# Altium schematic symbol library chenjd.SCHLIB: 64 symbols
Pins are listed as number, name and electrical type; pins without a type are passive.

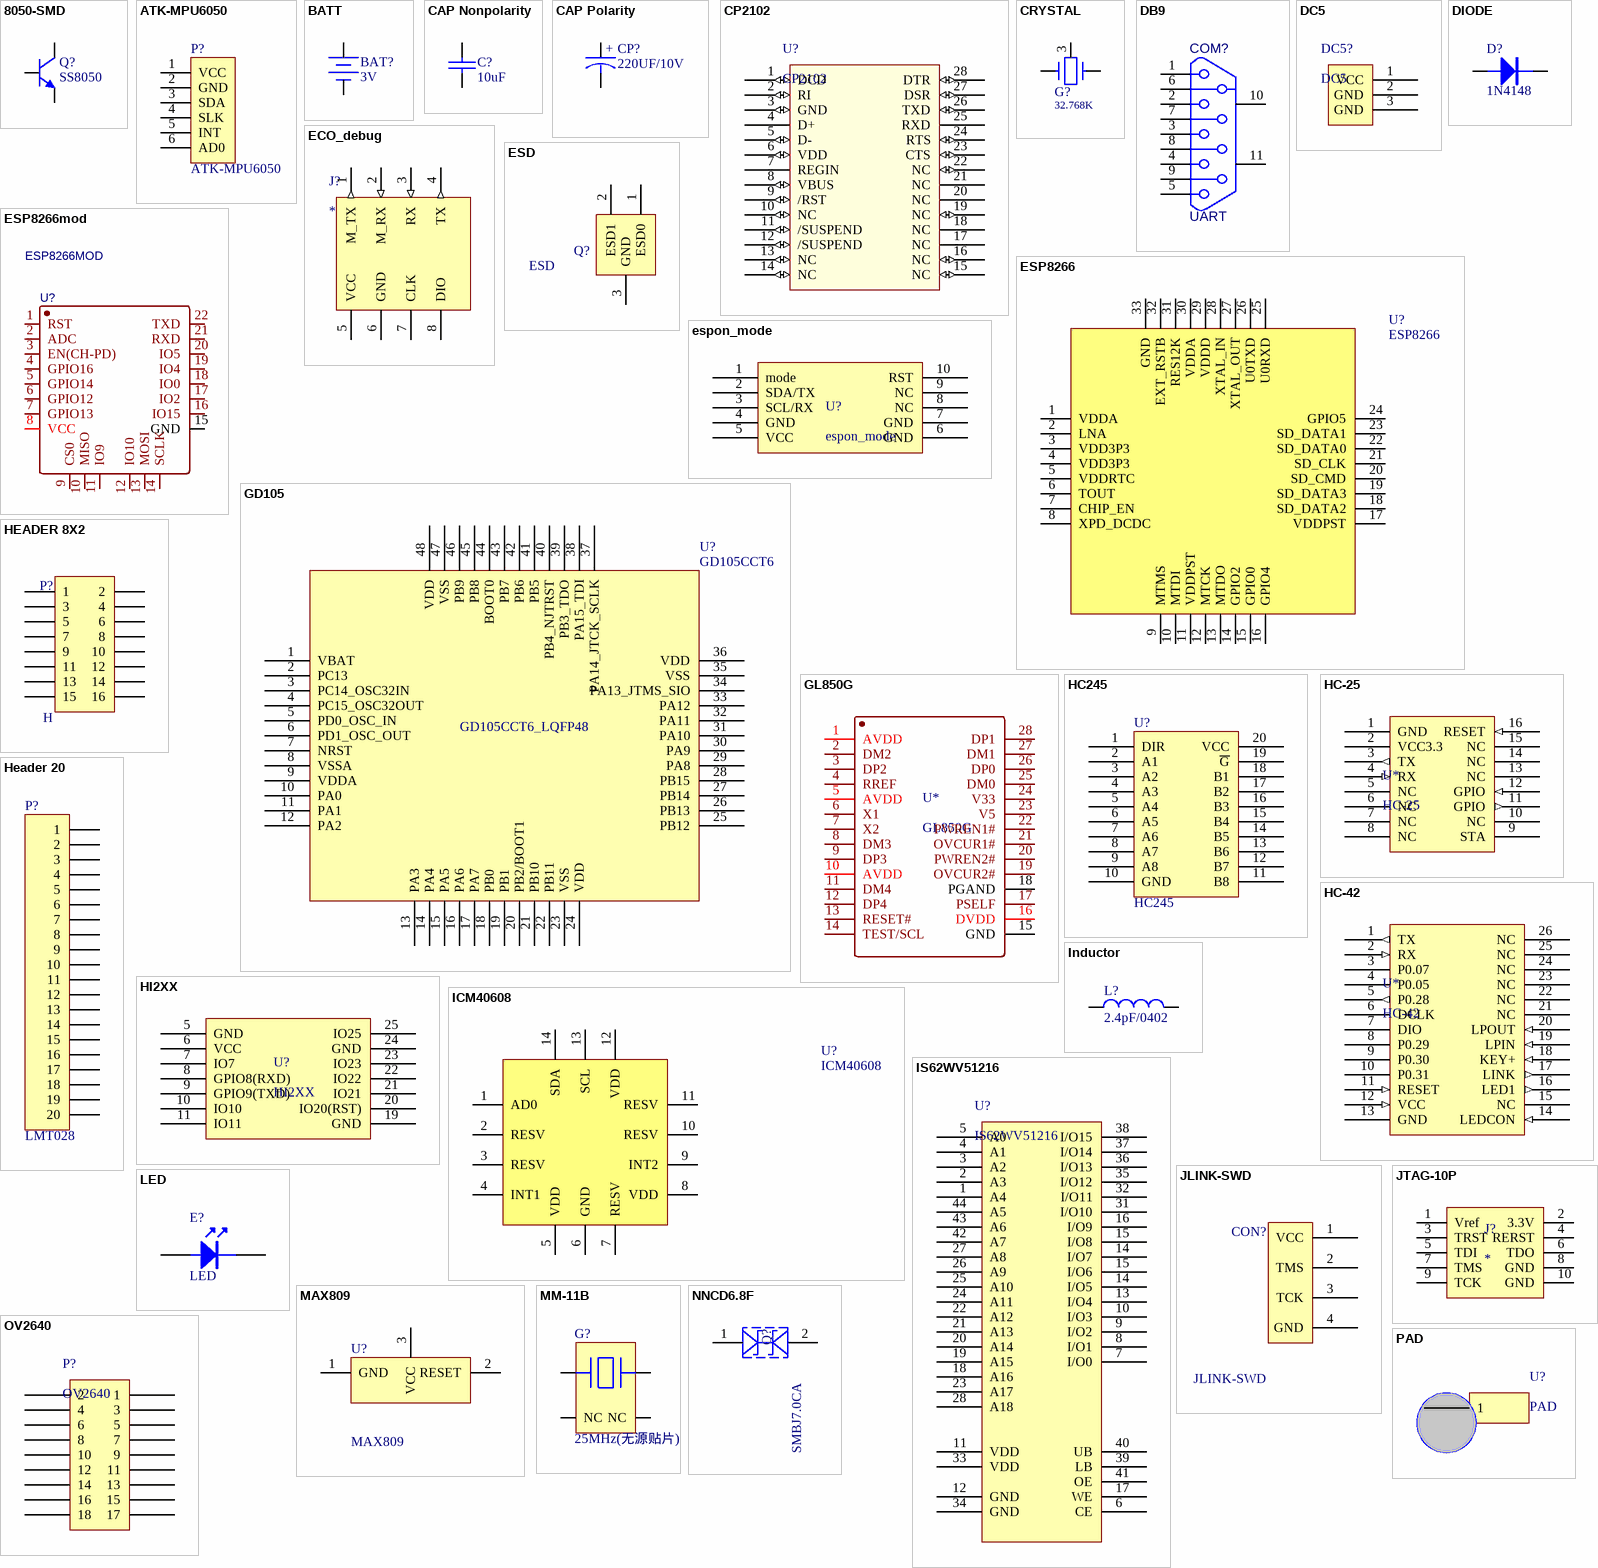
[diagram p0: symbols 8050-SMD to PAD]

## 8050-SMD
designator Q?, comment SS8050
高频放大-NPN型; 版权归属: 源创客; 属性: 40V 1.5A 1W 100MHZ; BOM名称: 高频放大-NPN型; 学习资源: www.ooocke.com
footprint SOT23-3N (3x1.3x1mm(长宽高))
footprint SOT23-3L (3x1.3x1mm(长宽高))
footprint SOT23-3M (3x1.3x1mm(长宽高))
pins: 1 B, 2 E, 3 C

## ATK-MPU6050
designator P?
LatestRevisionDate: 17-Jul-2002; LatestRevisionNote: Re-released for DXP Platform.; Publisher: Altium Limited
footprint ATK-MPU6080
pins: 1 VCC, 2 GND, 3 SDA, 4 SLK, 5 INT, 6 AD0

## BATT
designator BAT?, comment 3V
纽扣电池
footprint BAT (RTC电源)
pins: 1 VDD, 2 GND
2 alternate drawings of the same symbol

## CAP Nonpolarity
designator C?, comment 10uF
无极电容
footprint 0603C (0603电容)
pins: 1, 2
2 alternate drawings of the same symbol

## CAP Polarity
designator CP?, comment 220UF/10V
有极电容
footprint CAP
pins: 1, 2
2 alternate drawings of the same symbol
text: +

## CP2102
designator U?
usb转usart
footprint QFN28
pins: 1 DCD (io), 2 RI (io), 3 GND (io), 4 D+ (power), 5 D- (io), 6 VDD (io), 7 REGIN (power), 8 VBUS (io), 9 /RST (io), 10 NC (io), 11 /SUSPEND (io), 12 /SUSPEND (io), 13 NC (io), 14 NC (io), 15 NC (io), 16 NC (io), 17 NC (power), 18 NC (power), 19 NC (io), 20 NC (power), 21 NC (power), 22 NC (io), 23 CTS (io), 24 RTS (io), 25 RXD (power), 26 TXD (io), 27 DSR (io), 28 DTR (io)

## CRYSTAL
designator G?, comment 32.768K
RTC晶振
footprint XTAL3X8 (RTC晶振)
pins: 1, 2, 3

## DB9
designator COM?, comment UART
串口接口
footprint DB9-Female (DB9-母头接口)
footprint DB9-Male (DB9公头接口)
pins: 1, 2, 3, 4, 5, 6, 7, 8, 9, 10, 11

## DC5
designator DC5?
footprint DC5 (DC5电源插座)
pins: 1 VCC, 2 GND, 3 GND

## DIODE
designator D?, comment 1N4148
二极管
footprint DIODE0.4
footprint 1N4148
pins: 1, 2
2 alternate drawings of the same symbol

## ECO_debug
designator J?
eco调试接口
footprint ECO_debug (eco调试接口)
pins: 1 M_TX (out), 2 M_RX (in), 3 RX (in), 4 TX (out), 5 VCC (power), 6 GND, 7 CLK, 8 DIO

## ESD
designator Q?
PESD1CAN
footprint SOT32-809 (ESD)
pins: 1 ESD0, 2 ESD1, 3 GND
2 alternate drawings of the same symbol

## ESP8266
designator U?
footprint QFN32 (QFN, 32-Leads, ESP8266)
pins: 1 VDDA, 2 LNA, 3 VDD3P3, 4 VDD3P3, 5 VDDRTC, 6 TOUT, 7 CHIP_EN, 8 XPD_DCDC, 9 MTMS, 10 MTDI, 11 VDDPST, 12 MTCK, 13 MTDO, 14 GPIO2, 15 GPIO0, 16 GPIO4, 17 VDDPST, 18 SD_DATA2, 19 SD_DATA3, 20 SD_CMD, 21 SD_CLK, 22 SD_DATA0, 23 SD_DATA1, 24 GPIO5, 25 U0RXD, 26 U0TXD, 27 XTAL_OUT, 28 XTAL_IN, 29 VDDD, 30 VDDA, 31 RES12K, 32 EXT_RSTB, 33 GND

## ESP8266mod
designator U?, comment ESP8266MOD
BOM_Manufacturer: Ai-Thinker; BOM_Manufacturer Part: ESP-12F(ESP8266MOD); BOM_Supplier: LCSC; BOM_Supplier Part: C82891; spicePre: U
footprint ESP8266MOD
pins: 1 RST, 2 ADC, 3 EN(CH-PD), 4 GPIO16, 5 GPIO14, 6 GPIO12, 7 GPIO13, 8 VCC, 9 CS0, 10 MISO, 11 IO9, 12 IO10, 13 MOSI, 14 SCLK, 15 GND, 16 IO15, 17 IO2, 18 IO0, 19 IO4, 20 IO5, 21 RXD, 22 TXD

## espon_mode
designator U?
footprint espon_mode
pins: 1 mode, 2 SDA/TX, 3 SCL/RX, 4 GND, 5 VCC, 6 GND, 7 GND, 8 NC, 9 NC, 10 RST

## GD105
designator U?, comment GD105CCT6
GD105CCT6_LQFP48
footprint LQFP-48 (GD105)
pins: 1 VBAT, 2 PC13, 3 PC14_OSC32IN, 4 PC15_OSC32OUT, 5 PD0_OSC_IN, 6 PD1_OSC_OUT, 7 NRST, 8 VSSA, 9 VDDA, 10 PA0, 11 PA1, 12 PA2, 13 PA3, 14 PA4, 15 PA5, 16 PA6, 17 PA7, 18 PB0, 19 PB1, 20 PB2/BOOT1, 21 PB10, 22 PB11, 23 VSS, 24 VDD, 25 PB12, 26 PB13, 27 PB14, 28 PB15, 29 PA8, 30 PA9, 31 PA10, 32 PA11, 33 PA12, 34 PA13_JTMS_SIO, 35 VSS, 36 VDD, 37 PA14_JTCK_SCLK, 38 PA15_TDI, 39 PB3_TDO, 40 PB4_NJTRST, 41 PB5, 42 PB6, 43 PB7, 44 BOOT0, 45 PB8, 46 PB9, 47 VSS, 48 VDD

## GL850G
designator U*
USB集线器芯片
footprint GL850G-SSOP-28 (GL850G集线器芯片)
pins: 1 AVDD, 2 DM2, 3 DP2, 4 RREF, 5 AVDD, 6 X1, 7 X2, 8 DM3, 9 DP3, 10 AVDD, 11 DM4, 12 DP4, 13 RESET#, 14 TEST/SCL, 15 GND, 16 DVDD, 17 PSELF, 18 PGAND, 19 OVCUR2#, 20 PWREN2#, 21 OVCUR1#, 22 PWREN1#, 23 V5, 24 V33, 25 DM0, 26 DP0, 27 DM1, 28 DP1

## HC245
designator U?
245驱动
footprint SO20M (245)
pins: 1 DIR, 2 A1, 3 A2, 4 A3, 5 A4, 6 A5, 7 A6, 8 A7, 9 A8, 10 GND, 11 B8, 12 B7, 13 B6, 14 B5, 15 B4, 16 B3, 17 B2, 18 B1, 19 ~{G}, 20 VCC
2 alternate drawings of the same symbol

## HC-25
designator U*
HC-25wifi模块
footprint HC-25 (HC-25wifi模块)
pins: 1 GND, 2 VCC3.3, 3 TX (out), 4 RX (in), 5 NC, 6 NC, 7 NC, 8 NC, 9 STA, 10 NC, 11 GPIO (out), 12 GPIO (in), 13 NC, 14 NC, 15 NC, 16 RESET (in)

## HC-42
designator U*
HC-25蓝牙模块
footprint HC-42 (HC-42wifi模块)
pins: 1 TX (out), 2 RX (in), 3 P0.07, 4 P0.05, 5 P0.28 (out), 6 DCLK, 7 DIO, 8 P0.29, 9 P0.30, 10 P0.31, 11 RESET (in), 12 VCC (in), 13 GND, 14 LEDCON (in), 15 NC, 16 LED1 (out), 17 LINK (out), 18 KEY+ (in), 19 LPIN (in), 20 LPOUT (in), 21 NC, 22 NC, 23 NC, 24 NC, 25 NC, 26 NC

## HEADER 8X2
designator P?, comment H
8*2插针
footprint header8*2 (8*2插针)
pins: 1, 2, 3, 4, 5, 6, 7, 8, 9, 10, 11, 12, 13, 14, 15, 16

## Header 20
designator P?, comment LMT028
8位LCD; LatestRevisionDate: 17-Jul-2002; LatestRevisionNote: Re-released for DXP Platform.; Publisher: Altium Limited
footprint FPC-SMD20P-1.0MM
pins: 1, 2, 3, 4, 5, 6, 7, 8, 9, 10, 11, 12, 13, 14, 15, 16, 17, 18, 19, 20

## HI2XX
designator U?
HI226
footprint HI2XX_PLCC28 (Footprint not found)
pins: 5 GND, 6 VCC, 7 IO7, 8 GPIO8(RXD), 9 GPIO9(TXD), 10 IO10, 11 IO11, 19 GND, 20 IO20(RST), 21 IO21, 22 IO22, 23 IO23, 24 GND, 25 IO25

## ICM40608
designator U?
footprint ICM40608-LGA-14
pins: 1 AD0, 2 RESV, 3 RESV, 4 INT1, 5 VDD, 6 GND, 7 RESV, 8 VDD, 9 INT2, 10 RESV, 11 RESV, 12 VDD, 13 SCL, 14 SDA

## Inductor
designator L?, comment 2.4pF/0402
电感; Code_IEC: 1005; Value: 10mH; Published: 8-Jun-2000; LatestRevisionDate: 29-May-2009; LatestRevisionNote: IPC-7351 Footprint Added.; PackageReference: 0402-A; Publisher: Altium Limited; PackageDescription: Chip Inductor; Code_JEITA: 0402
footprint 0402R
pins: 1, 2

## IS62WV51216
designator U?
footprint LC-TSOP(II)-44 (SRAM:IS62WV51216)
pins: 1 A4, 2 A3, 3 A2, 4 A1, 5 A0, 6 CE, 7 I/O0, 8 I/O1, 9 I/O2, 10 I/O3, 11 VDD, 12 GND, 13 I/O4, 14 I/O5, 14 I/O7, 15 I/O6, 15 I/O8, 16 I/O9, 17 WE, 18 A16, 19 A15, 20 A14, 21 A13, 22 A12, 23 A17, 24 A11, 25 A10, 26 A9, 27 A8, 28 A18, 31 I/O10, 32 I/O11, 33 VDD, 34 GND, 35 I/O12, 36 I/O13, 37 I/O14, 38 I/O15, 39 LB, 40 UB, 41 OE, 42 A7, 43 A6, 44 A5

## JLINK-SWD
designator CON?
SWD下载接口
footprint Jlink-SWD (Jlink下载接口)
pins: 1 VCC, 2 TMS, 3 TCK, 4 GND

## JTAG-10P
designator J?
10pin JTAG
footprint JTAG-10pin (10pin JTAG)
pins: 1 Vref, 2 3.3V, 3 TRST, 4 RERST, 5 TDI, 6 TDO, 7 TMS, 8 GND, 9 TCK, 10 GND

## LED
designator E?
LED灯
footprint 0805
footprint LED_0603L (LED)
pins: 1, 2
2 alternate drawings of the same symbol

## MAX809
designator U?
复位IC
footprint SOT32-809 (ESD)
pins: 1 GND, 2 RESET, 3 VCC

## MM-11B
designator G?, comment 25MHz(无源贴片)
无源晶振MCU使用
footprint CLOCK6.9*1.4
footprint XTAL3X8
footprint G3225 (3225贴片晶振)
pins: 1, 2 NC, 3, 4 NC

## NNCD6.8F
designator Q?, comment SMBJ7.0CA
TVS二极管
footprint Q (485)
pins: 1, 2
2 alternate drawings of the same symbol

## OV2640
designator P?
CAMERA接口
footprint OV2640 (CAMERA接口)
pins: 1, 2, 3, 4, 5, 6, 7, 8, 9, 10, 11, 12, 13, 14, 15, 16, 17, 18

## PAD
designator U?
触摸
pins: 1

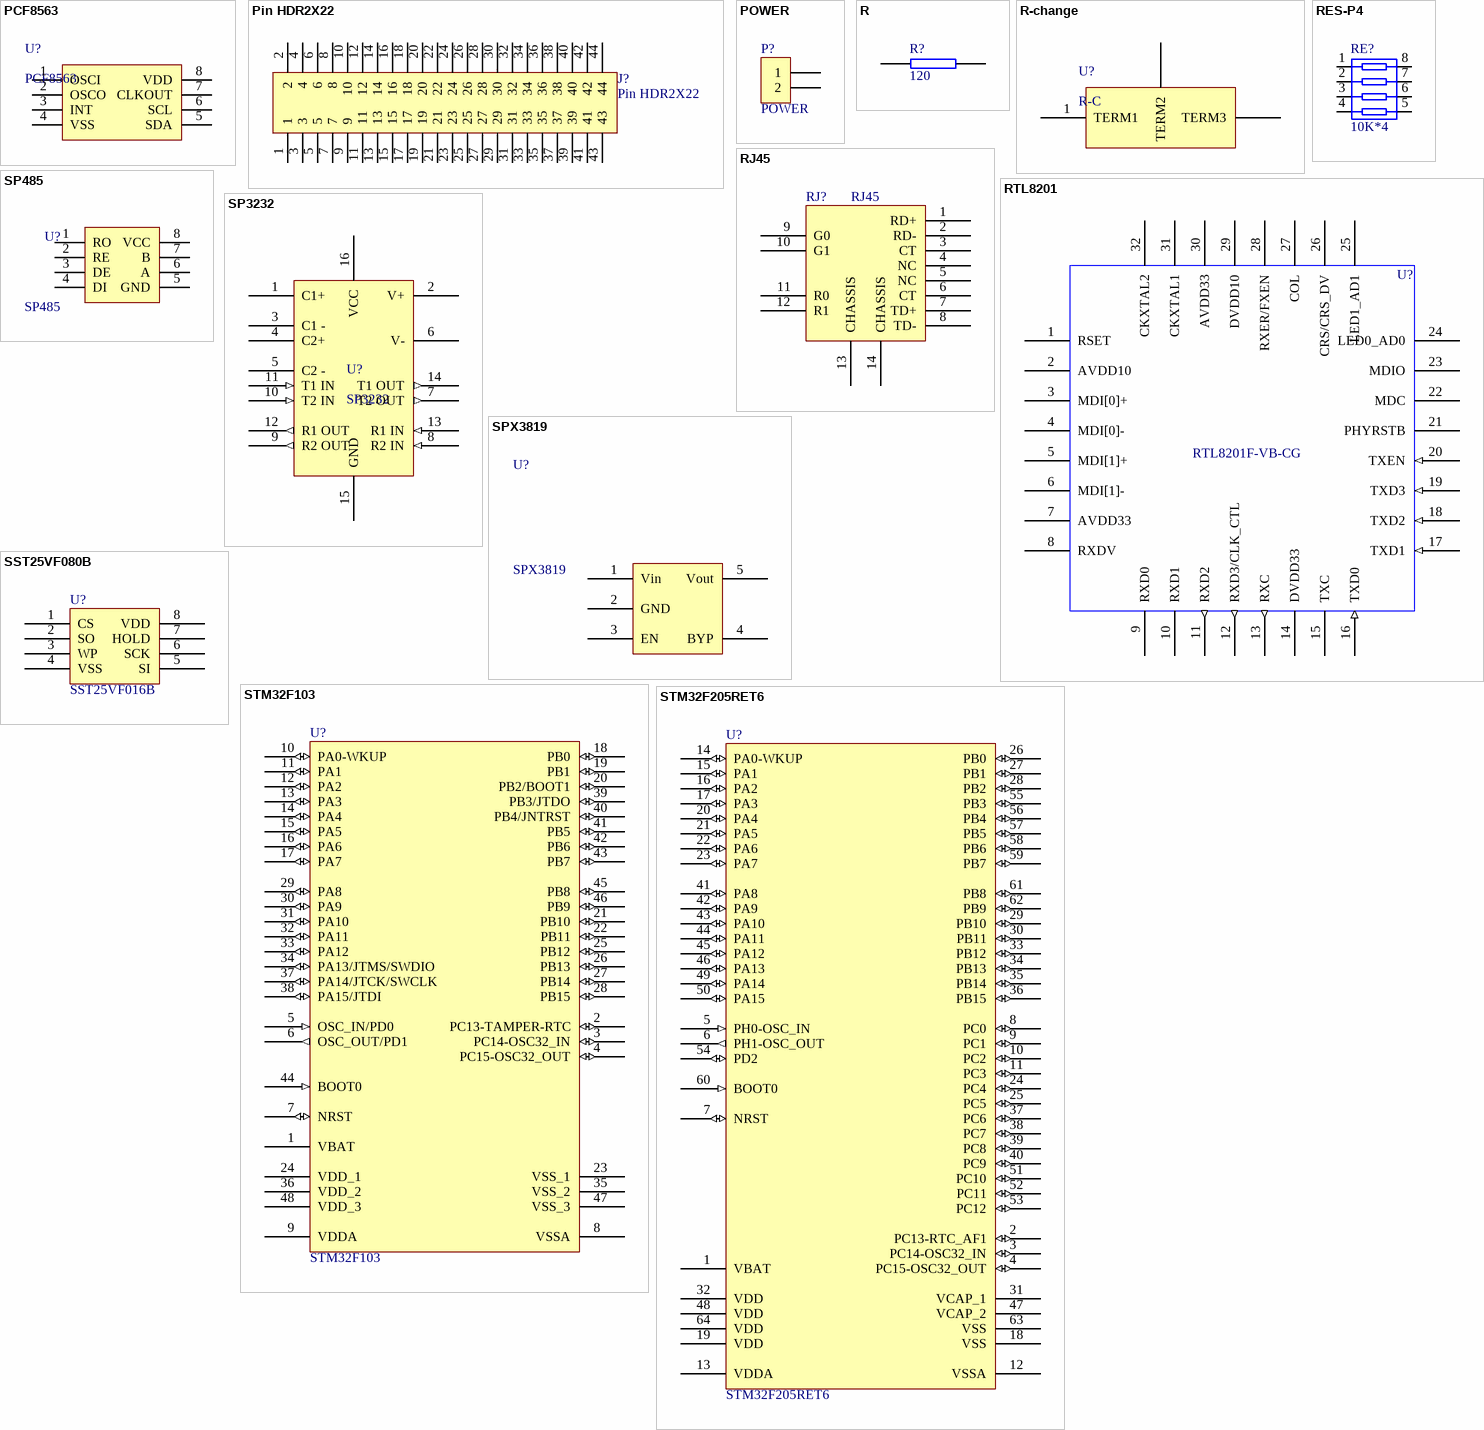
[diagram p1: symbols PCF8563 to STM32F205RET6]

## PCF8563
designator U?
RTC芯片
footprint SO8 (485和RTC)
pins: 1 OSCI, 2 OSCO, 3 INT, 4 VSS, 5 SDA, 6 SCL, 7 CLKOUT, 8 VDD

## Pin HDR2X22
designator J?
22pin双排2.54接口
footprint Pin HDR2X22/2.54mm-W (Connector; Header; 22x2 Position; Right Angle)
footprint PIN HDR2X22/2.54SMD (22pin双排2.54贴片)
pins: 1, 2, 3, 4, 5, 6, 7, 8, 9, 10, 11, 12, 13, 14, 15, 16, 17, 18, 19, 20, 21, 22, 23, 24, 25, 26, 27, 28, 29, 30, 31, 32, 33, 34, 35, 36, 37, 38, 39, 40, 41, 42, 43, 44

## POWER
designator P?
电源接口
footprint POWERCOM (power接口)
pins: 1, 2
2 alternate drawings of the same symbol

## R
designator R?, comment 120
电阻
footprint 0603R (0603电阻封装)
pins: 1, 2
2 alternate drawings of the same symbol

## R-change
designator U?, comment R-C
滑动变阻器
footprint R-Change (滑动变阻器)
pins: 1 TERM1, 2 TERM2, 3 TERM3

## RES-P4
designator RE?, comment 10K*4
4 排阻
footprint PZ-4-0.8B
footprint SRS9 (排阻)
pins: 1, 2, 3, 4, 5, 6, 7, 8
2 alternate drawings of the same symbol

## RJ45
designator RJ?
footprint RJ45
pins: 1 RD+, 2 RD-, 3 CT, 4 NC, 5 NC, 6 CT, 7 TD+, 8 TD-, 9 G0, 10 G1, 11 R0, 12 R1, 13 CHASSIS, 14 CHASSIS
2 alternate drawings of the same symbol

## RTL8201
designator U?, comment RTL8201F-VB-CG
RTL8201; Text Field1: 230; Text Field2: 230
footprint QFN32 (QFN32脚)
pins: 1 RSET (power), 2 AVDD10 (power), 3 MDI[0]+, 4 MDI[0]-, 5 MDI[1]+ (power), 6 MDI[1]-, 7 AVDD33, 8 RXDV, 9 RXD0, 10 RXD1, 11 RXD2 (out), 12 RXD3/CLK_CTL (out), 13 RXC (out), 14 DVDD33 (power), 15 TXC, 16 TXD0 (in), 17 TXD1 (in), 18 TXD2 (in), 19 TXD3 (in), 20 TXEN (in), 21 PHYRSTB, 22 MDC, 23 MDIO, 24 LED0_AD0, 25 LED1_AD1 (power), 26 CRS/CRS_DV, 27 COL, 28 RXER/FXEN, 29 DVDD10 (power), 30 AVDD33, 31 CKXTAL1 (power), 32 CKXTAL2 (power)
text: RTL8201F

## SP485
designator U?
485芯片
footprint SO8 (485和RTC)
pins: 1 RO, 2 RE, 3 DE, 4 DI, 5 GND, 6 A, 7 B, 8 VCC
2 alternate drawings of the same symbol

## SP3232
designator U?
232IC
footprint SO16 (232)
pins: 1 C1+, 2 V+, 3 C1 -, 4 C2+, 5 C2 -, 6 V-, 7 T2 OUT (out), 8 R2 IN (in), 9 R2 OUT (out), 10 T2 IN (in), 11 T1 IN (in), 12 R1 OUT (out), 13 R1 IN (in), 14 T1 OUT (out), 15 GND, 16 VCC (power)

## SPX3819
designator U?
稳压器
footprint SOT-23-5 (SPX3819)
pins: 1 Vin, 2 GND, 3 EN, 4 BYP, 5 Vout
2 alternate drawings of the same symbol

## SST25VF080B
designator U?, comment SST25VF016B
串行Flash
footprint SOW8 (flash封装)
pins: 1 CS, 2 SO, 3 WP, 4 VSS, 5 SI, 6 SCK, 7 HOLD, 8 VDD

## STM32F103
designator U?
STM32F103C8T6; Published: 30-May-2008; DatasheetVersion: rev6, Mar-2008; PackageVersion: Mar-2008; PackageReference: LQFP48; Publisher: Altium Limited; PackageDescription: 48-Pin Low-Profile Quad Flat Pack, 7 x 7 mm Body, 0.5 mm Pitch (LQFP48); ComponentLink1Description: Manufacturer Link; ComponentLink1URL: www.st.com/stm32; ComponentLink2Description: Datasheet; ComponentLink2URL: http://www.st.com/stonline/products/literature/ds/13587.pdf
footprint LQFP-48 (GD105)
pins: 1 VBAT (power), 2 PC13-TAMPER-RTC (io), 3 PC14-OSC32_IN (io), 4 PC15-OSC32_OUT (io), 5 OSC_IN/PD0 (in), 6 OSC_OUT/PD1 (out), 7 NRST (io), 8 VSSA (power), 9 VDDA (power), 10 PA0-WKUP (io), 11 PA1 (io), 12 PA2 (io), 13 PA3 (io), 14 PA4 (io), 15 PA5 (io), 16 PA6 (io), 17 PA7 (io), 18 PB0 (io), 19 PB1 (io), 20 PB2/BOOT1 (io), 21 PB10 (io), 22 PB11 (io), 23 VSS_1 (power), 24 VDD_1 (power), 25 PB12 (io), 26 PB13 (io), 27 PB14 (io), 28 PB15 (io), 29 PA8 (io), 30 PA9 (io), 31 PA10 (io), 32 PA11 (io), 33 PA12 (io), 34 PA13/JTMS/SWDIO (io), 35 VSS_2 (power), 36 VDD_2 (power), 37 PA14/JTCK/SWCLK (io), 38 PA15/JTDI (io), 39 PB3/JTDO (io), 40 PB4/JNTRST (io), 41 PB5 (io), 42 PB6 (io), 43 PB7 (io), 44 BOOT0 (in), 45 PB8 (io), 46 PB9 (io), 47 VSS_3 (power), 48 VDD_3 (power)

## STM32F205RET6
designator U?
Microcontroller   ST; Code: 104261; Vision: V5.0; Value: STM32F205RET6; LatestRevisionDate: 25-Mar-2015; PackageReference: SQFP10x10-64; Brand: ST; InitialReleaseDate: 25-Mar-2015
footprint LQFP64 10x10_N (64脚，体宽10x10mm，脚距0.5mm)
pins: 1 VBAT (power), 2 PC13-RTC_AF1 (io), 3 PC14-OSC32_IN (io), 4 PC15-OSC32_OUT (io), 5 PH0-OSC_IN (in), 6 PH1-OSC_OUT (out), 7 NRST (io), 8 PC0 (io), 9 PC1 (io), 10 PC2 (io), 11 PC3 (io), 12 VSSA (power), 13 VDDA (power), 14 PA0-WKUP (io), 15 PA1 (io), 16 PA2 (io), 17 PA3 (io), 18 VSS (power), 19 VDD (power), 20 PA4 (io), 21 PA5 (io), 22 PA6 (io), 23 PA7 (io), 24 PC4 (io), 25 PC5 (io), 26 PB0 (io), 27 PB1 (io), 28 PB2 (io), 29 PB10 (io), 30 PB11 (io), 31 VCAP_1 (power), 32 VDD (power), 33 PB12 (io), 34 PB13 (io), 35 PB14 (io), 36 PB15 (io), 37 PC6 (io), 38 PC7 (io), 39 PC8 (io), 40 PC9 (io), 41 PA8 (io), 42 PA9 (io), 43 PA10 (io), 44 PA11 (io), 45 PA12 (io), 46 PA13 (io), 47 VCAP_2 (power), 48 VDD (power), 49 PA14 (io), 50 PA15 (io), 51 PC10 (io), 52 PC11 (io), 53 PC12 (io), 54 PD2 (io), 55 PB3 (io), 56 PB4 (io), 57 PB5 (io), 58 PB6 (io), 59 PB7 (io), 60 BOOT0 (in), 61 PB8 (io), 62 PB9 (io), 63 VSS (power), 64 VDD (power)

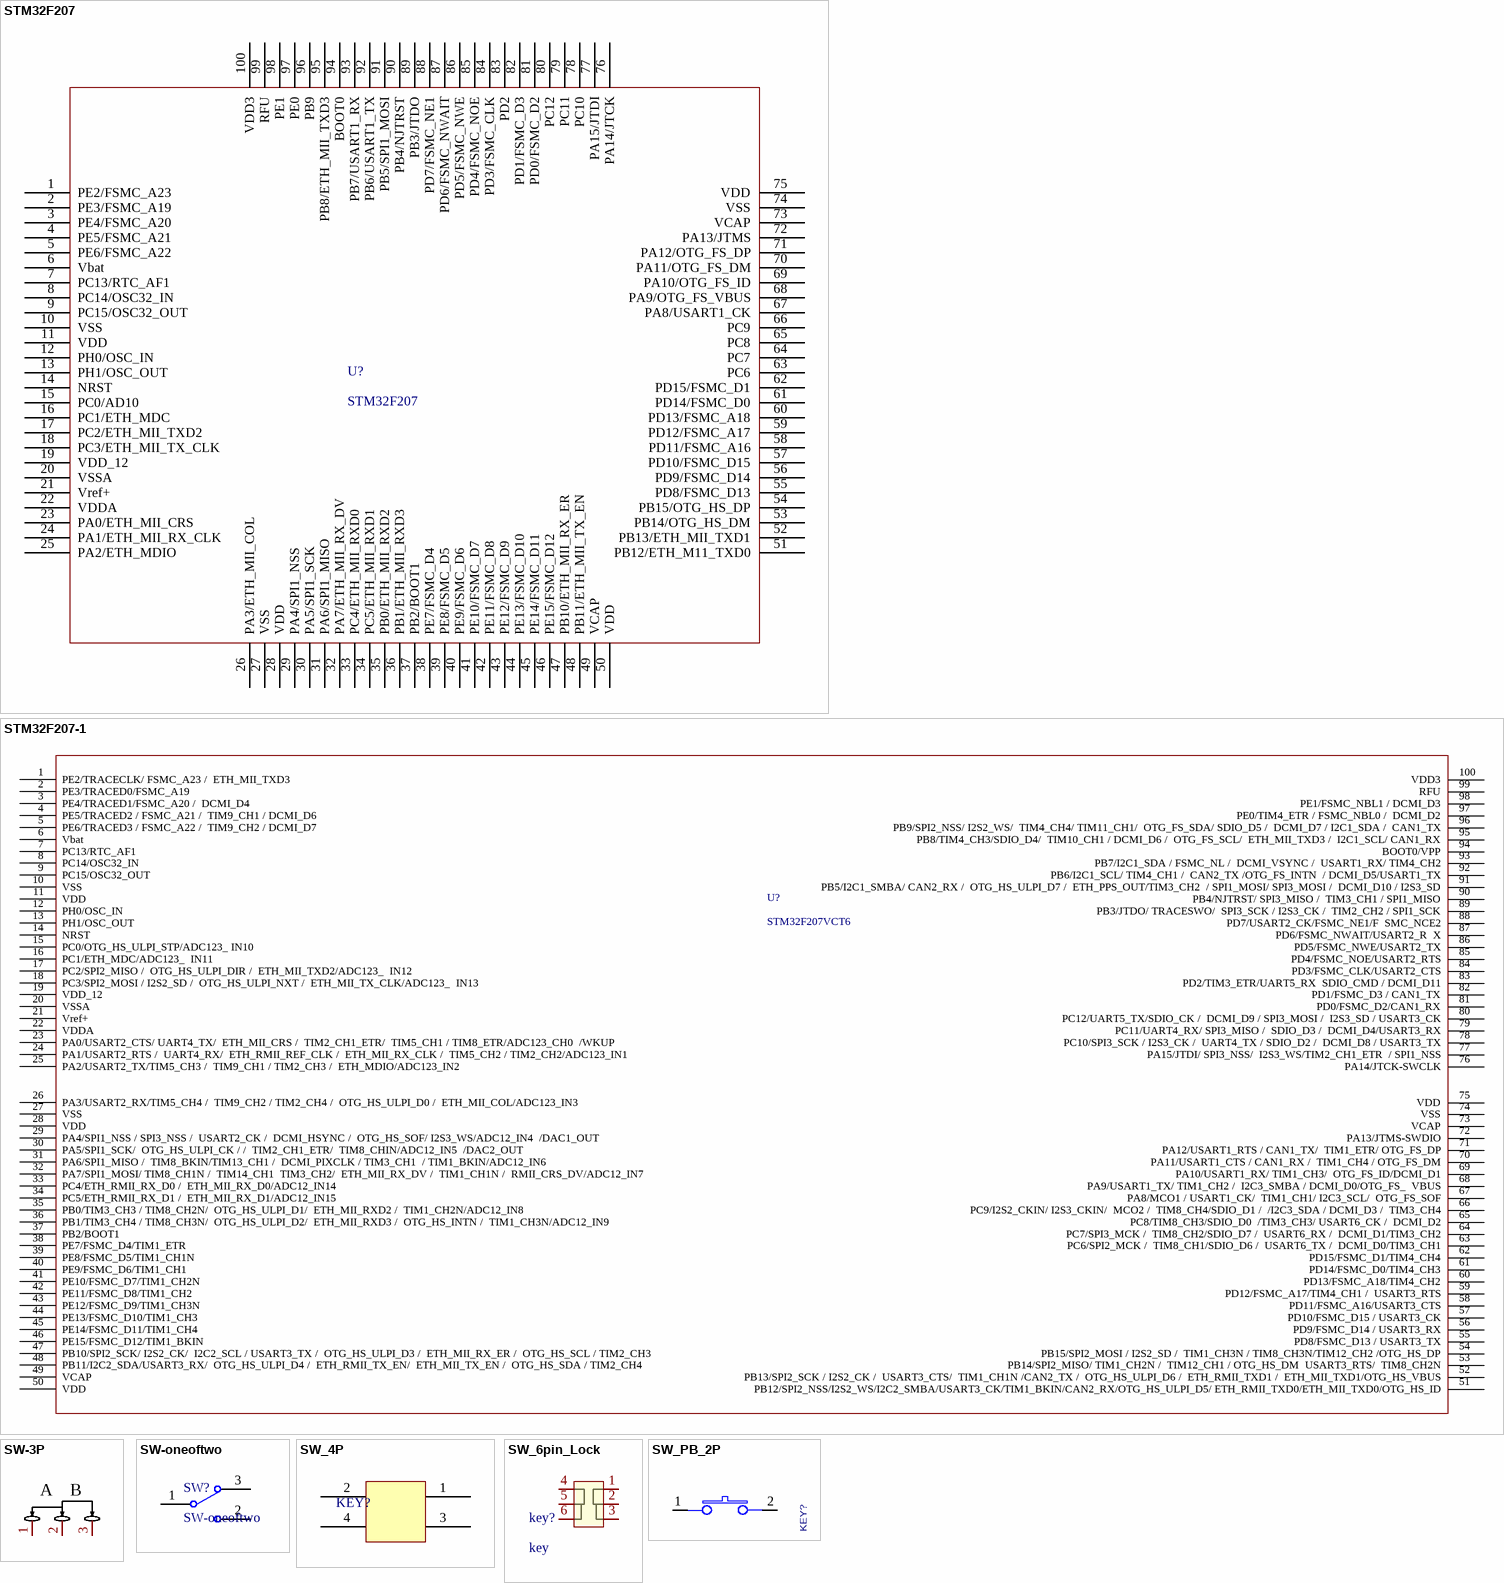
[diagram p2: symbols STM32F207 to SW_PB_2P]

## STM32F207
designator U?
STM32F207VCT6
footprint LQFP-100
pins: 1 PE2/FSMC_A23, 2 PE3/FSMC_A19, 3 PE4/FSMC_A20, 4 PE5/FSMC_A21, 5 PE6/FSMC_A22, 6 Vbat, 7 PC13/RTC_AF1, 8 PC14/OSC32_IN, 9 PC15/OSC32_OUT, 10 VSS, 11 VDD, 12 PH0/OSC_IN, 13 PH1/OSC_OUT, 14 NRST, 15 PC0/AD10, 16 PC1/ETH_MDC, 17 PC2/ETH_MII_TXD2, 18 PC3/ETH_MII_TX_CLK, 19 VDD_12, 20 VSSA, 21 Vref+, 22 VDDA, 23 PA0/ETH_MII_CRS, 24 PA1/ETH_MII_RX_CLK, 25 PA2/ETH_MDIO, 26 PA3/ETH_MII_COL, 27 VSS, 28 VDD, 29 PA4/SPI1_NSS, 30 PA5/SPI1_SCK, 31 PA6/SPI1_MISO, 32 PA7/ETH_MII_RX_DV, 33 PC4/ETH_MII_RXD0, 34 PC5/ETH_MII_RXD1, 35 PB0/ETH_MII_RXD2, 36 PB1/ETH_MII_RXD3, 37 PB2/BOOT1, 38 PE7/FSMC_D4, 39 PE8/FSMC_D5, 40 PE9/FSMC_D6, 41 PE10/FSMC_D7, 42 PE11/FSMC_D8, 43 PE12/FSMC_D9, 44 PE13/FSMC_D10, 45 PE14/FSMC_D11, 46 PE15/FSMC_D12, 47 PB10/ETH_MII_RX_ER, 48 PB11/ETH_MII_TX_EN, 49 VCAP, 50 VDD, 51 PB12/ETH_M11_TXD0, 52 PB13/ETH_MII_TXD1, 53 PB14/OTG_HS_DM, 54 PB15/OTG_HS_DP, 55 PD8/FSMC_D13, 56 PD9/FSMC_D14, 57 PD10/FSMC_D15, 58 PD11/FSMC_A16, 59 PD12/FSMC_A17, 60 PD13/FSMC_A18, 61 PD14/FSMC_D0, 62 PD15/FSMC_D1, 63 PC6, 64 PC7, 65 PC8, 66 PC9, 67 PA8/USART1_CK, 68 PA9/OTG_FS_VBUS, 69 PA10/OTG_FS_ID, 70 PA11/OTG_FS_DM, 71 PA12/OTG_FS_DP, 72 PA13/JTMS, 73 VCAP, 74 VSS, 75 VDD, 76 PA14/JTCK, 77 PA15/JTDI, 78 PC10, 79 PC11, 80 PC12, 81 PD0/FSMC_D2, 82 PD1/FSMC_D3, 83 PD2, 84 PD3/FSMC_CLK, 85 PD4/FSMC_NOE, 86 PD5/FSMC_NWE, 87 PD6/FSMC_NWAIT, 88 PD7/FSMC_NE1, 89 PB3/JTDO, 90 PB4/NJTRST, 91 PB5/SPI1_MOSI, 92 PB6/USART1_TX, 93 PB7/USART1_RX, 94 BOOT0, 95 PB8/ETH_MII_TXD3, 96 PB9, 97 PE0, 98 PE1, 99 RFU, 100 VDD3

## STM32F207-1
designator U?, comment STM32F207VCT6
footprint LQFP-100
pins: 1 PE2/TRACECLK/ FSMC_A23 /  ETH_MII_TXD3, 2 PE3/TRACED0/FSMC_A19, 3 PE4/TRACED1/FSMC_A20 /  DCMI_D4, 4 PE5/TRACED2 / FSMC_A21 /  TIM9_CH1 / DCMI_D6, 5 PE6/TRACED3 / FSMC_A22 /  TIM9_CH2 / DCMI_D7, 6 Vbat, 7 PC13/RTC_AF1, 8 PC14/OSC32_IN, 9 PC15/OSC32_OUT, 10 VSS, 11 VDD, 12 PH0/OSC_IN, 13 PH1/OSC_OUT, 14 NRST, 15 PC0/OTG_HS_ULPI_STP/ADC123_ IN10, 16 PC1/ETH_MDC/ADC123_  IN11, 17 PC2/SPI2_MISO /  OTG_HS_ULPI_DIR /  ETH_MII_TXD2/ADC123_  IN12, 18 PC3/SPI2_MOSI / I2S2_SD /  OTG_HS_ULPI_NXT /  ETH_MII_TX_CLK/ADC123_  IN13, 19 VDD_12, 20 VSSA, 21 Vref+, 22 VDDA, 23 PA0/USART2_CTS/ UART4_TX/  ETH_MII_CRS /  TIM2_CH1_ETR/  TIM5_CH1 / TIM8_ETR/ADC123_CH0  /WKUP, 24 PA1/USART2_RTS /  UART4_RX/  ETH_RMII_REF_CLK /  ETH_MII_RX_CLK /  TIM5_CH2 / TIM2_CH2/ADC123_IN1, 25 PA2/USART2_TX/TIM5_CH3 /  TIM9_CH1 / TIM2_CH3 /  ETH_MDIO/ADC123_IN2, 26 PA3/USART2_RX/TIM5_CH4 /  TIM9_CH2 / TIM2_CH4 /  OTG_HS_ULPI_D0 /  ETH_MII_COL/ADC123_IN3, 27 VSS, 28 VDD, 29 PA4/SPI1_NSS / SPI3_NSS /  USART2_CK /  DCMI_HSYNC /  OTG_HS_SOF/ I2S3_WS/ADC12_IN4  /DAC1_OUT, 30 PA5/SPI1_SCK/  OTG_HS_ULPI_CK / /  TIM2_CH1_ETR/  TIM8_CHIN/ADC12_IN5  /DAC2_OUT, 31 PA6/SPI1_MISO /  TIM8_BKIN/TIM13_CH1 /  DCMI_PIXCLK / TIM3_CH1  / TIM1_BKIN/ADC12_IN6, 32 PA7/SPI1_MOSI/ TIM8_CH1N /  TIM14_CH1  TIM3_CH2/  ETH_MII_RX_DV /  TIM1_CH1N /  RMII_CRS_DV/ADC12_IN7, 33 PC4/ETH_RMII_RX_D0 /  ETH_MII_RX_D0/ADC12_IN14, 34 PC5/ETH_RMII_RX_D1 /  ETH_MII_RX_D1/ADC12_IN15, 35 PB0/TIM3_CH3 / TIM8_CH2N/  OTG_HS_ULPI_D1/  ETH_MII_RXD2 /  TIM1_CH2N/ADC12_IN8, 36 PB1/TIM3_CH4 / TIM8_CH3N/  OTG_HS_ULPI_D2/  ETH_MII_RXD3 /  OTG_HS_INTN /  TIM1_CH3N/ADC12_IN9, 37 PB2/BOOT1, 38 PE7/FSMC_D4/TIM1_ETR, 39 PE8/FSMC_D5/TIM1_CH1N, 40 PE9/FSMC_D6/TIM1_CH1, 41 PE10/FSMC_D7/TIM1_CH2N, 42 PE11/FSMC_D8/TIM1_CH2, 43 PE12/FSMC_D9/TIM1_CH3N, 44 PE13/FSMC_D10/TIM1_CH3, 45 PE14/FSMC_D11/TIM1_CH4, 46 PE15/FSMC_D12/TIM1_BKIN, 47 PB10/SPI2_SCK/ I2S2_CK/  I2C2_SCL / USART3_TX /  OTG_HS_ULPI_D3 /  ETH_MII_RX_ER /  OTG_HS_SCL / TIM2_CH3, 48 PB11/I2C2_SDA/USART3_RX/  OTG_HS_ULPI_D4 /  ETH_RMII_TX_EN/  ETH_MII_TX_EN /  OTG_HS_SDA / TIM2_CH4, 49 VCAP, 50 VDD, 51 PB12/SPI2_NSS/I2S2_WS/I2C2_SMBA/USART3_CK/TIM1_BKIN/CAN2_RX/OTG_HS_ULPI_D5/ ETH_RMII_TXD0/ETH_MII_TXD0/OTG_HS_ID, 52 PB13/SPI2_SCK / I2S2_CK /  USART3_CTS/  TIM1_CH1N /CAN2_TX /  OTG_HS_ULPI_D6 /  ETH_RMII_TXD1 /  ETH_MII_TXD1/OTG_HS_VBUS, 53 PB14/SPI2_MISO/ TIM1_CH2N /  TIM12_CH1 / OTG_HS_DM  USART3_RTS/  TIM8_CH2N, 54 PB15/SPI2_MOSI / I2S2_SD /  TIM1_CH3N / TIM8_CH3N/TIM12_CH2 /OTG_HS_DP, 55 PD8/FSMC_D13 / USART3_TX, 56 PD9/FSMC_D14 / USART3_RX, 57 PD10/FSMC_D15 / USART3_CK, 58 PD11/FSMC_A16/USART3_CTS, 59 PD12/FSMC_A17/TIM4_CH1 /  USART3_RTS, 60 PD13/FSMC_A18/TIM4_CH2, 61 PD14/FSMC_D0/TIM4_CH3, 62 PD15/FSMC_D1/TIM4_CH4, 63 PC6/SPI2_MCK /  TIM8_CH1/SDIO_D6 /  USART6_TX /  DCMI_D0/TIM3_CH1, 64 PC7/SPI3_MCK /  TIM8_CH2/SDIO_D7 /  USART6_RX /  DCMI_D1/TIM3_CH2, 65 PC8/TIM8_CH3/SDIO_D0  /TIM3_CH3/ USART6_CK /  DCMI_D2, 66 PC9/I2S2_CKIN/ I2S3_CKIN/  MCO2 /  TIM8_CH4/SDIO_D1 /  /I2C3_SDA / DCMI_D3 /  TIM3_CH4, 67 PA8/MCO1 / USART1_CK/  TIM1_CH1/ I2C3_SCL/  OTG_FS_SOF, 68 PA9/USART1_TX/ TIM1_CH2 /  I2C3_SMBA / DCMI_D0/OTG_FS_  VBUS, 69 PA10/USART1_RX/ TIM1_CH3/  OTG_FS_ID/DCMI_D1, 70 PA11/USART1_CTS / CAN1_RX /  TIM1_CH4 / OTG_FS_DM, 71 PA12/USART1_RTS / CAN1_TX/  TIM1_ETR/ OTG_FS_DP, 72 PA13/JTMS-SWDIO, 73 VCAP, 74 VSS, 75 VDD, 76 PA14/JTCK-SWCLK, 77 PA15/JTDI/ SPI3_NSS/  I2S3_WS/TIM2_CH1_ETR  / SPI1_NSS, 78 PC10/SPI3_SCK / I2S3_CK /  UART4_TX / SDIO_D2 /  DCMI_D8 / USART3_TX, 79 PC11/UART4_RX/ SPI3_MISO /  SDIO_D3 /  DCMI_D4/USART3_RX, 80 PC12/UART5_TX/SDIO_CK /  DCMI_D9 / SPI3_MOSI /  I2S3_SD / USART3_CK, 81 PD0/FSMC_D2/CAN1_RX, 82 PD1/FSMC_D3 / CAN1_TX, 83 PD2/TIM3_ETR/UART5_RX  SDIO_CMD / DCMI_D11, 84 PD3/FSMC_CLK/USART2_CTS, 85 PD4/FSMC_NOE/USART2_RTS, 86 PD5/FSMC_NWE/USART2_TX, 87 PD6/FSMC_NWAIT/USART2_R  X, 88 PD7/USART2_CK/FSMC_NE1/F  SMC_NCE2, 89 PB3/JTDO/ TRACESWO/  SPI3_SCK / I2S3_CK /  TIM2_CH2 / SPI1_SCK, 90 PB4/NJTRST/ SPI3_MISO /  TIM3_CH1 / SPI1_MISO, 91 PB5/I2C1_SMBA/ CAN2_RX /  OTG_HS_ULPI_D7 /  ETH_PPS_OUT/TIM3_CH2  / SPI1_MOSI/ SPI3_MOSI /  DCMI_D10 / I2S3_SD, 92 PB6/I2C1_SCL/ TIM4_CH1 /  CAN2_TX /OTG_FS_INTN  / DCMI_D5/USART1_TX, 93 PB7/I2C1_SDA / FSMC_NL /  DCMI_VSYNC /  USART1_RX/ TIM4_CH2, 94 BOOT0/VPP, 95 PB8/TIM4_CH3/SDIO_D4/  TIM10_CH1 / DCMI_D6 /  OTG_FS_SCL/  ETH_MII_TXD3 /  I2C1_SCL/ CAN1_RX, 96 PB9/SPI2_NSS/ I2S2_WS/  TIM4_CH4/ TIM11_CH1/  OTG_FS_SDA/ SDIO_D5 /  DCMI_D7 / I2C1_SDA /  CAN1_TX, 97 PE0/TIM4_ETR / FSMC_NBL0 /  DCMI_D2, 98 PE1/FSMC_NBL1 / DCMI_D3, 99 RFU, 100 VDD3

## SW-3P
designator SW??, comment TA-3530A-A2  (value not drawn)
2选1滑动开关; Manufacturer: Yuandi(元迪); Add into BOM: yes; Name: TA-3530A-A2; Symbol: TA-3530A-A2; Device: TA-3530A-A2; LCSC Part Name: 滑动开关9.1*3.5*3.0mm贴片正拨三脚二档; Supplier Part: C514025; Manufacturer Part: TA-3530A-A2; Supplier Footprint: SMD,9.1x3.5mm; JLCPCB Part Class: Extended Part; Datasheet: https://atta.szlcsc.com/upload/public/pdf/source/20200415/C514026_8B08460025BDC38443E709528B1B4516.pdf; Supplier: LCSC; Convert to PCB: yes
footprint SW-3P (2选1滑动开关)
pins: 1, 2, 3
text: A; B

## SW-oneoftwo
designator SW?
二选一电阻开关
footprint SW-oneoftwo-0603 (二选一电阻开关0603)
pins: 1, 2, 3

## SW_4P
designator KEY?, comment KEY  (value not drawn)
四脚按钮
footprint KEY (四脚按键)
pins: 1, 2, 3, 4
2 alternate drawings of the same symbol

## SW_6pin_Lock
designator key?, comment key
6pin自锁开关，按下2和3相连，5和6相连，释放1和2相连，4和5相连
footprint SW_6P_Lock (6pin自锁开关)
pins: 1, 2, 3, 4, 5, 6

## SW_PB_2P
designator KEY?, comment H-3650AADW(NC)  (value not drawn)
贴片按钮-2PIN(NC); CLASS: IO; PCB DECAL: SWEVQPA; Source_Path: E:\PROJECT\FREESCALE\IMX6\SCH\IMX_LIBRARY.OLB; Value: SW_PB_2P; Manufacturer: ?; MFG_NAME01: ?; Manufacturer_Part_Number: ?; MFG_PN01: ?
footprint SW_PB_2P (2脚贴片按钮)
pins: 1, 2

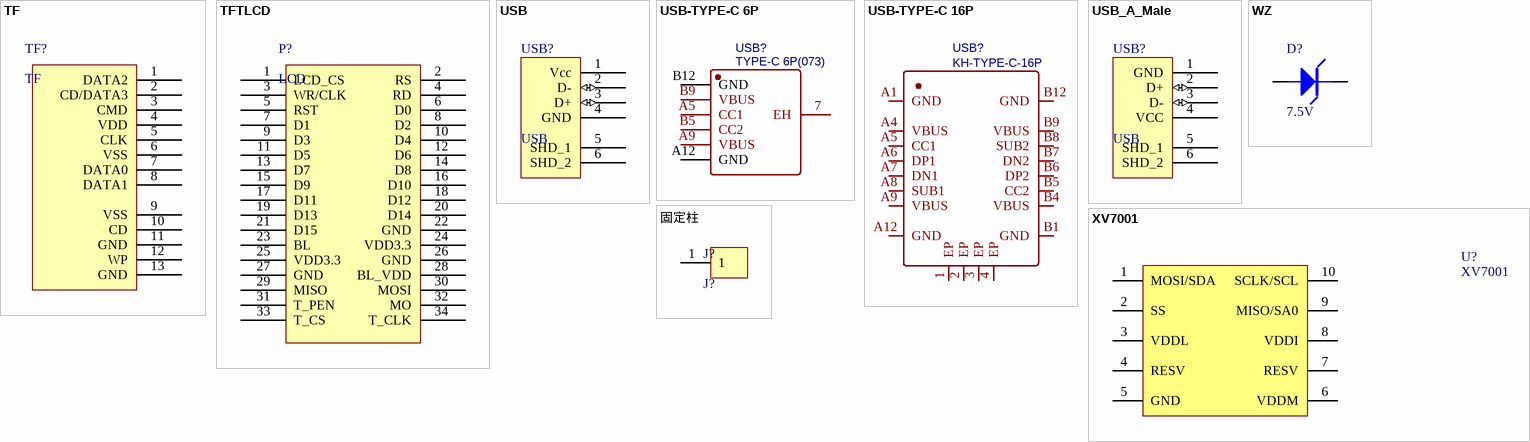
[diagram p3: symbols TF to 固定柱]

## TF
designator TF?
TF卡
footprint TF (TF卡)
pins: 1 DATA2, 2 CD/DATA3, 3 CMD, 4 VDD, 5 CLK, 6 VSS, 7 DATA0, 8 DATA1, 9 VSS, 10 CD, 11 GND, 12 WP, 13 GND

## TFTLCD
designator P?, comment LCD
ALINETEK LCD 接口
footprint 34 pin (ALINETEK LCD 接口)
pins: 1 LCD_CS, 2 RS, 3 WR/CLK, 4 RD, 5 RST, 6 D0, 7 D1, 8 D2, 9 D3, 10 D4, 11 D5, 12 D6, 13 D7, 14 D8, 15 D9, 16 D10, 17 D11, 18 D12, 19 D13, 20 D14, 21 D15, 22 GND, 23 BL, 24 VDD3.3, 25 VDD3.3, 26 GND, 27 GND, 28 BL_VDD, 29 MISO, 30 MOSI, 31 T_PEN, 32 MO, 33 T_CS, 34 T_CLK

## USB
designator USB?
USB的A头
footprint USB-TA (USB2.0 Type-A接口)
footprint USB-MB (USB2.0-Mirco-B)
footprint USB-TB (USB2.0 Type-B接口)
footprint USB-A-TH_48037-0001 (USB-A-公头)
pins: 1 Vcc, 2 D- (io), 3 D+ (io), 4 GND, 5 SHD_1, 6 SHD_2

## USB-TYPE-C 6P
designator USB?, comment TYPE-C 6P(073)
6脚usb type-c接口; BOM_Manufacturer: SHOU HAN; Contributor: LCSC; BOM_Supplier: LCSC; BOM_Supplier Part: C668623; BOM_Manufacturer Part: TYPE-C 6P(073); spicePre: U; spiceSymbolName: TYPE-C 6P(073)
footprint USB-C-6P (USB type C 6P)
pins: 7 EH, A5 CC1, A9 VBUS, A12 GND, B5 CC2, B9 VBUS, B12 GND

## USB-TYPE-C 16P
designator USB?, comment KH-TYPE-C-16P
USB Type-C的16pin封装; BOM_Manufacturer: Shenzhen Kinghelm Elec; Contributor: LCSC; BOM_Supplier: LCSC; BOM_Supplier Part: C709357; BOM_Manufacturer Part: KH-TYPE-C-16P; spicePre: U; spiceSymbolName: KH-TYPE-C-16P
footprint USB-C-16P (USB Type-c 16P)
pins: 1 EP, 2 EP, 3 EP, 4 EP, A1 GND, A4 VBUS, A5 CC1, A6 DP1, A7 DN1, A8 SUB1, A9 VBUS, A12 GND, B1 GND, B4 VBUS, B5 CC2, B6 DP2, B7 DN2, B8 SUB2, B9 VBUS, B12 GND

## USB_A_Male
designator USB?, comment USB
USB的A直插公头
footprint USB-2.0-4P-HRO-MALE (USB2.0-A直插公头)
pins: 1 GND, 2 D+ (io), 3 D- (io), 4 VCC, 5 SHD_1, 6 SHD_2

## WZ
designator D?, comment 7.5V
稳压二极管
footprint 1N4148
pins: 1, 2
2 alternate drawings of the same symbol

## XV7001
designator U?
爱普生陀螺仪
footprint XV7001 (爱普生陀螺仪)
pins: 1 MOSI/SDA, 2 SS, 3 VDDL, 4 RESV, 5 GND, 6 VDDM, 7 RESV, 8 VDDI, 9 MISO/SA0, 10 SCLK/SCL

## 固定柱
designator J?, comment J?
固定柱
footprint 固定柱
pins: 1